# EAGLE library part STM32F4O7I (library stm32f4)
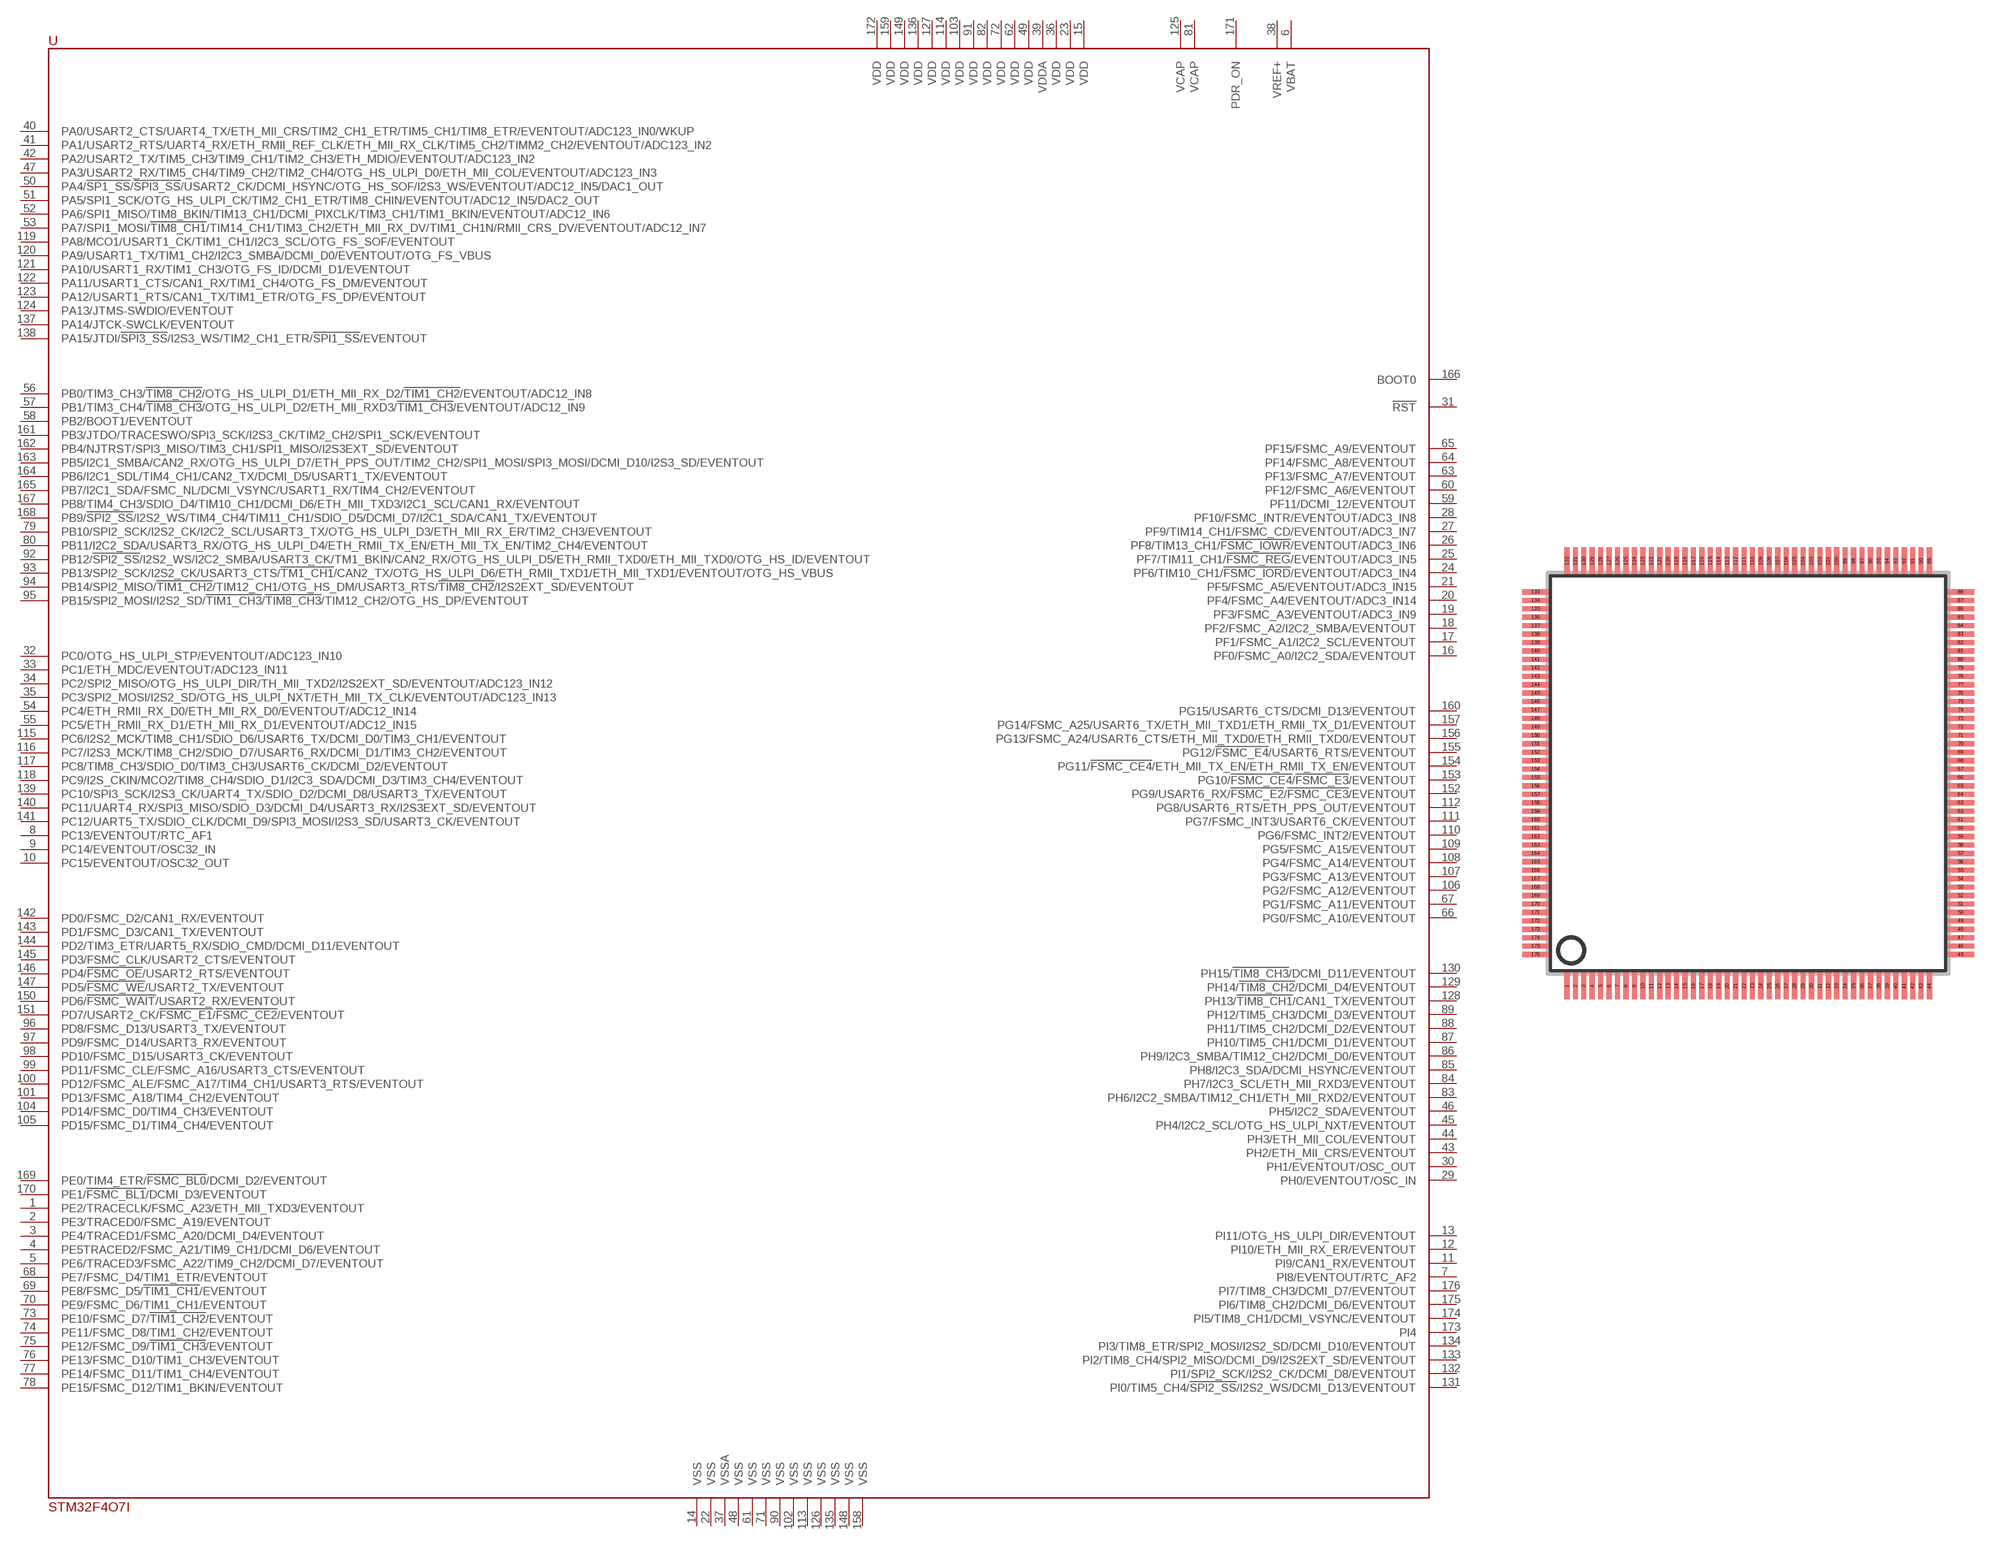
[diagram p3: symbol with the pads of SQFP-S-24X24-176; footprint SQFP-S-24X24-176]

Designator prefix -

## STM32F4O7I  [SQFP-S-24X24-176]
1  PE2/TRACECLK/FSMC_A23/ETH_MII_TXD3/EVENTOUT
2  PE3/TRACED0/FSMC_A19/EVENTOUT
3  PE4/TRACED1/FSMC_A20/DCMI_D4/EVENTOUT
4  PE5TRACED2/FSMC_A21/TIM9_CH1/DCMI_D6/EVENTOUT
5  PE6/TRACED3/FSMC_A22/TIM9_CH2/DCMI_D7/EVENTOUT
6  VBAT
7  PI8/EVENTOUT/RTC_AF2
8  PC13/EVENTOUT/RTC_AF1
9  PC14/EVENTOUT/OSC32_IN
10  PC15/EVENTOUT/OSC32_OUT
11  PI9/CAN1_RX/EVENTOUT
12  PI10/ETH_MII_RX_ER/EVENTOUT
13  PI11/OTG_HS_ULPI_DIR/EVENTOUT
14  VSS
15  VDD
16  PF0/FSMC_A0/I2C2_SDA/EVENTOUT
17  PF1/FSMC_A1/I2C2_SCL/EVENTOUT
18  PF2/FSMC_A2/I2C2_SMBA/EVENTOUT
19  PF3/FSMC_A3/EVENTOUT/ADC3_IN9
20  PF4/FSMC_A4/EVENTOUT/ADC3_IN14
21  PF5/FSMC_A5/EVENTOUT/ADC3_IN15
22  VSS
23  VDD
24  PF6/TIM10_CH1/!FSMC_IORD!/EVENTOUT/ADC3_IN4
25  PF7/TIM11_CH1/!FSMC_REG!/EVENTOUT/ADC3_IN5
26  PF8/TIM13_CH1/!FSMC_IOWR!/EVENTOUT/ADC3_IN6
27  PF9/TIM14_CH1/FSMC_CD/EVENTOUT/ADC3_IN7
28  PF10/FSMC_INTR/EVENTOUT/ADC3_IN8
29  PH0/EVENTOUT/OSC_IN
30  PH1/EVENTOUT/OSC_OUT
31  !RST!
32  PC0/OTG_HS_ULPI_STP/EVENTOUT/ADC123_IN10
33  PC1/ETH_MDC/EVENTOUT/ADC123_IN11
34  PC2/SPI2_MISO/OTG_HS_ULPI_DIR/TH_MII_TXD2/I2S2EXT_SD/EVENTOUT/ADC123_IN12
35  PC3/SPI2_MOSI/I2S2_SD/OTG_HS_ULPI_NXT/ETH_MII_TX_CLK/EVENTOUT/ADC123_IN13
36  VDD
37  VSSA
38  VREF+
39  VDDA
40  PA0/USART2_CTS/UART4_TX/ETH_MII_CRS/TIM2_CH1_ETR/TIM5_CH1/TIM8_ETR/EVENTOUT/ADC123_IN0/WKUP
41  PA1/USART2_RTS/UART4_RX/ETH_RMII_REF_CLK/ETH_MII_RX_CLK/TIM5_CH2/TIMM2_CH2/EVENTOUT/ADC123_IN2
42  PA2/USART2_TX/TIM5_CH3/TIM9_CH1/TIM2_CH3/ETH_MDIO/EVENTOUT/ADC123_IN2
43  PH2/ETH_MII_CRS/EVENTOUT
44  PH3/ETH_MII_COL/EVENTOUT
45  PH4/I2C2_SCL/OTG_HS_ULPI_NXT/EVENTOUT
46  PH5/I2C2_SDA/EVENTOUT
47  PA3/USART2_RX/TIM5_CH4/TIM9_CH2/TIM2_CH4/OTG_HS_ULPI_D0/ETH_MII_COL/EVENTOUT/ADC123_IN3
48  VSS
49  VDD
50  PA4/!SP1_SS!/!SPI3_SS!/USART2_CK/DCMI_HSYNC/OTG_HS_SOF/I2S3_WS/EVENTOUT/ADC12_IN5/DAC1_OUT
51  PA5/SPI1_SCK/OTG_HS_ULPI_CK/TIM2_CH1_ETR/TIM8_CHIN/EVENTOUT/ADC12_IN5/DAC2_OUT
52  PA6/SPI1_MISO/TIM8_BKIN/TIM13_CH1/DCMI_PIXCLK/TIM3_CH1/TIM1_BKIN/EVENTOUT/ADC12_IN6
53  PA7/SPI1_MOSI/!TIM8_CH1!/TIM14_CH1/TIM3_CH2/ETH_MII_RX_DV/TIM1_CH1N/RMII_CRS_DV/EVENTOUT/ADC12_IN7
54  PC4/ETH_RMII_RX_D0/ETH_MII_RX_D0/EVENTOUT/ADC12_IN14
55  PC5/ETH_RMII_RX_D1/ETH_MII_RX_D1/EVENTOUT/ADC12_IN15
56  PB0/TIM3_CH3/!TIM8_CH2!/OTG_HS_ULPI_D1/ETH_MII_RX_D2/!TIM1_CH2!/EVENTOUT/ADC12_IN8
57  PB1/TIM3_CH4/!TIM8_CH3!/OTG_HS_ULPI_D2/ETH_MII_RXD3/!TIM1_CH3!/EVENTOUT/ADC12_IN9
58  PB2/BOOT1/EVENTOUT
59  PF11/DCMI_12/EVENTOUT
60  PF12/FSMC_A6/EVENTOUT
61  VSS
62  VDD
63  PF13/FSMC_A7/EVENTOUT
64  PF14/FSMC_A8/EVENTOUT
65  PF15/FSMC_A9/EVENTOUT
66  PG0/FSMC_A10/EVENTOUT
67  PG1/FSMC_A11/EVENTOUT
68  PE7/FSMC_D4/TIM1_ETR/EVENTOUT
69  PE8/FSMC_D5/!TIM1_CH1!/EVENTOUT
70  PE9/FSMC_D6/TIM1_CH1/EVENTOUT
71  VSS
72  VDD
73  PE10/FSMC_D7/!TIM1_CH2!/EVENTOUT
74  PE11/FSMC_D8/TIM1_CH2/EVENTOUT
75  PE12/FSMC_D9/!TIM1_CH3!/EVENTOUT
76  PE13/FSMC_D10/TIM1_CH3/EVENTOUT
77  PE14/FSMC_D11/TIM1_CH4/EVENTOUT
78  PE15/FSMC_D12/TIM1_BKIN/EVENTOUT
79  PB10/SPI2_SCK/I2S2_CK/I2C2_SCL/USART3_TX/OTG_HS_ULPI_D3/ETH_MII_RX_ER/TIM2_CH3/EVENTOUT
80  PB11/I2C2_SDA/USART3_RX/OTG_HS_ULPI_D4/ETH_RMII_TX_EN/ETH_MII_TX_EN/TIM2_CH4/EVENTOUT
81  VCAP
82  VDD
83  PH6/I2C2_SMBA/TIM12_CH1/ETH_MII_RXD2/EVENTOUT
84  PH7/I2C3_SCL/ETH_MII_RXD3/EVENTOUT
85  PH8/I2C3_SDA/DCMI_HSYNC/EVENTOUT
86  PH9/I2C3_SMBA/TIM12_CH2/DCMI_D0/EVENTOUT
87  PH10/TIM5_CH1/DCMI_D1/EVENTOUT
88  PH11/TIM5_CH2/DCMI_D2/EVENTOUT
89  PH12/TIM5_CH3/DCMI_D3/EVENTOUT
90  VSS
91  VDD
92  PB12/!SPI2_SS!/I2S2_WS/I2C2_SMBA/USART3_CK/TM1_BKIN/CAN2_RX/OTG_HS_ULPI_D5/ETH_RMII_TXD0/ETH_MII_TXD0/OTG_HS_ID/EVENTOUT
93  PB13/SPI2_SCK/I2S2_CK/USART3_CTS/!TM1_CH1!/CAN2_TX/OTG_HS_ULPI_D6/ETH_RMII_TXD1/ETH_MII_TXD1/EVENTOUT/OTG_HS_VBUS
94  PB14/SPI2_MISO/!TIM1_CH2!/TIM12_CH1/OTG_HS_DM/USART3_RTS/!TIM8_CH2!/I2S2EXT_SD/EVENTOUT
95  PB15/SPI2_MOSI/I2S2_SD/!TIM1_CH3!/!TIM8_CH3!/TIM12_CH2/OTG_HS_DP/EVENTOUT
96  PD8/FSMC_D13/USART3_TX/EVENTOUT
97  PD9/FSMC_D14/USART3_RX/EVENTOUT
98  PD10/FSMC_D15/USART3_CK/EVENTOUT
99  PD11/FSMC_CLE/FSMC_A16/USART3_CTS/EVENTOUT
100  PD12/FSMC_ALE/FSMC_A17/TIM4_CH1/USART3_RTS/EVENTOUT
101  PD13/FSMC_A18/TIM4_CH2/EVENTOUT
102  VSS
103  VDD
104  PD14/FSMC_D0/TIM4_CH3/EVENTOUT
105  PD15/FSMC_D1/TIM4_CH4/EVENTOUT
106  PG2/FSMC_A12/EVENTOUT
107  PG3/FSMC_A13/EVENTOUT
108  PG4/FSMC_A14/EVENTOUT
109  PG5/FSMC_A15/EVENTOUT
110  PG6/FSMC_INT2/EVENTOUT
111  PG7/FSMC_INT3/USART6_CK/EVENTOUT
112  PG8/USART6_RTS/ETH_PPS_OUT/EVENTOUT
113  VSS
114  VDD
115  PC6/I2S2_MCK/TIM8_CH1/SDIO_D6/USART6_TX/DCMI_D0/TIM3_CH1/EVENTOUT
116  PC7/I2S3_MCK/TIM8_CH2/SDIO_D7/USART6_RX/DCMI_D1/TIM3_CH2/EVENTOUT
117  PC8/TIM8_CH3/SDIO_D0/TIM3_CH3/USART6_CK/DCMI_D2/EVENTOUT
118  PC9/I2S_CKIN/MCO2/TIM8_CH4/SDIO_D1/I2C3_SDA/DCMI_D3/TIM3_CH4/EVENTOUT
119  PA8/MCO1/USART1_CK/TIM1_CH1/I2C3_SCL/OTG_FS_SOF/EVENTOUT
120  PA9/USART1_TX/TIM1_CH2/I2C3_SMBA/DCMI_D0/EVENTOUT/OTG_FS_VBUS
121  PA10/USART1_RX/TIM1_CH3/OTG_FS_ID/DCMI_D1/EVENTOUT
122  PA11/USART1_CTS/CAN1_RX/TIM1_CH4/OTG_FS_DM/EVENTOUT
123  PA12/USART1_RTS/CAN1_TX/TIM1_ETR/OTG_FS_DP/EVENTOUT
124  PA13/JTMS-SWDIO/EVENTOUT
125  VCAP
126  VSS
127  VDD
128  PH13/!TIM8_CH1!/CAN1_TX/EVENTOUT
129  PH14/!TIM8_CH2!/DCMI_D4/EVENTOUT
130  PH15/!TIM8_CH3!/DCMI_D11/EVENTOUT
131  PI0/TIM5_CH4/!SPI2_SS!/I2S2_WS/DCMI_D13/EVENTOUT
132  PI1/SPI2_SCK/I2S2_CK/DCMI_D8/EVENTOUT
133  PI2/TIM8_CH4/SPI2_MISO/DCMI_D9/I2S2EXT_SD/EVENTOUT
134  PI3/TIM8_ETR/SPI2_MOSI/I2S2_SD/DCMI_D10/EVENTOUT
135  VSS
136  VDD
137  PA14/JTCK-SWCLK/EVENTOUT
138  PA15/JTDI/!SPI3_SS!/I2S3_WS/TIM2_CH1_ETR/!SPI1_SS!/EVENTOUT
139  PC10/SPI3_SCK/I2S3_CK/UART4_TX/SDIO_D2/DCMI_D8/USART3_TX/EVENTOUT
140  PC11/UART4_RX/SPI3_MISO/SDIO_D3/DCMI_D4/USART3_RX/I2S3EXT_SD/EVENTOUT
141  PC12/UART5_TX/SDIO_CLK/DCMI_D9/SPI3_MOSI/I2S3_SD/USART3_CK/EVENTOUT
142  PD0/FSMC_D2/CAN1_RX/EVENTOUT
143  PD1/FSMC_D3/CAN1_TX/EVENTOUT
144  PD2/TIM3_ETR/UART5_RX/SDIO_CMD/DCMI_D11/EVENTOUT
145  PD3/FSMC_CLK/USART2_CTS/EVENTOUT
146  PD4/!FSMC_OE!/USART2_RTS/EVENTOUT
147  PD5/!FSMC_WE!/USART2_TX/EVENTOUT
148  VSS
149  VDD
150  PD6/!FSMC_WAIT!/USART2_RX/EVENTOUT
151  PD7/USART2_CK/!FSMC_E1!/!FSMC_CE2!/EVENTOUT
152  PG9/USART6_RX/!FSMC_E2!/!FSMC_CE3!/EVENTOUT
153  PG10/!FSMC_CE4!/!FSMC_E3!/EVENTOUT
154  PG11/!FSMC_CE4!/ETH_MII_TX_EN/ETH_RMII_TX_EN/EVENTOUT
155  PG12/!FSMC_E4!/USART6_RTS/EVENTOUT
156  PG13/FSMC_A24/USART6_CTS/ETH_MII_TXD0/ETH_RMII_TXD0/EVENTOUT
157  PG14/FSMC_A25/USART6_TX/ETH_MII_TXD1/ETH_RMII_TX_D1/EVENTOUT
158  VSS
159  VDD
160  PG15/USART6_CTS/DCMI_D13/EVENTOUT
161  PB3/JTDO/TRACESWO/SPI3_SCK/I2S3_CK/TIM2_CH2/SPI1_SCK/EVENTOUT
162  PB4/NJTRST/SPI3_MISO/TIM3_CH1/SPI1_MISO/I2S3EXT_SD/EVENTOUT
163  PB5/I2C1_SMBA/CAN2_RX/OTG_HS_ULPI_D7/ETH_PPS_OUT/TIM2_CH2/SPI1_MOSI/SPI3_MOSI/DCMI_D10/I2S3_SD/EVENTOUT
164  PB6/I2C1_SDL/TIM4_CH1/CAN2_TX/DCMI_D5/USART1_TX/EVENTOUT
165  PB7/I2C1_SDA/FSMC_NL/DCMI_VSYNC/USART1_RX/TIM4_CH2/EVENTOUT
166  BOOT0
167  PB8/TIM4_CH3/SDIO_D4/TIM10_CH1/DCMI_D6/ETH_MII_TXD3/I2C1_SCL/CAN1_RX/EVENTOUT
168  PB9/!SPI2_SS!/I2S2_WS/TIM4_CH4/TIM11_CH1/SDIO_D5/DCMI_D7/I2C1_SDA/CAN1_TX/EVENTOUT
169  PE0/TIM4_ETR/!FSMC_BL0!/DCMI_D2/EVENTOUT
170  PE1/!FSMC_BL1!/DCMI_D3/EVENTOUT
171  PDR_ON
172  VDD
173  PI4
174  PI5/TIM8_CH1/DCMI_VSYNC/EVENTOUT
175  PI6/TIM8_CH2/DCMI_D6/EVENTOUT
176  PI7/TIM8_CH3/DCMI_D7/EVENTOUT

## Footprint SQFP-S-24X24-176 (pad centres in mm)
QFP176 shrink quad flat pack, square
smd 0.3 x 1.6: 1 -10.75,-12.6; 2 -10.25,-12.6; 3 -9.75,-12.6; 4 -9.25,-12.6; 5 -8.75,-12.6; 6 -8.25,-12.6; 7 -7.75,-12.6; 8 -7.25,-12.6; 9 -6.75,-12.6; 10 -6.25,-12.6; 11 -5.75,-12.6; 12 -5.25,-12.6; 13 -4.75,-12.6; 14 -4.25,-12.6; 15 -3.75,-12.6; 16 -3.25,-12.6; 17 -2.75,-12.6; 18 -2.25,-12.6; 19 -1.75,-12.6; 20 -1.25,-12.6; 21 -0.75,-12.6; 22 -0.25,-12.6; 23 0.25,-12.6; 24 0.75,-12.6; 25 1.25,-12.6; 26 1.75,-12.6; 27 2.25,-12.6; 28 2.75,-12.6; 29 3.25,-12.6; 30 3.75,-12.6; 31 4.25,-12.6; 32 4.75,-12.6; 33 5.25,-12.6; 34 5.75,-12.6; 35 6.25,-12.6; 36 6.75,-12.6; 37 7.25,-12.6; 38 7.75,-12.6; 39 8.25,-12.6; 40 8.75,-12.6; 41 9.25,-12.6; 42 9.75,-12.6; 43 10.25,-12.6; 44 10.75,-12.6; 89 10.75,12.6; 90 10.25,12.6; 91 9.75,12.6; 92 9.25,12.6; 93 8.75,12.6; 94 8.25,12.6; 95 7.75,12.6; 96 7.25,12.6; 97 6.75,12.6; 98 6.25,12.6; 99 5.75,12.6; 100 5.25,12.6; 101 4.75,12.6; 102 4.25,12.6; 103 3.75,12.6; 104 3.25,12.6; 105 2.75,12.6; 106 2.25,12.6; 107 1.75,12.6; 108 1.25,12.6; 109 0.75,12.6; 110 0.25,12.6; 111 -0.25,12.6; 112 -0.75,12.6; 113 -1.25,12.6; 114 -1.75,12.6; 115 -2.25,12.6; 116 -2.75,12.6; 117 -3.25,12.6; 118 -3.75,12.6; 119 -4.25,12.6; 120 -4.75,12.6; 121 -5.25,12.6; 122 -5.75,12.6; 123 -6.25,12.6; 124 -6.75,12.6; 125 -7.25,12.6; 126 -7.75,12.6; 127 -8.25,12.6; 128 -8.75,12.6; 129 -9.25,12.6; 130 -9.75,12.6; 131 -10.25,12.6; 132 -10.75,12.6
smd 1.6 x 0.3: 45 12.6,-10.75; 46 12.6,-10.25; 47 12.6,-9.75; 48 12.6,-9.25; 49 12.6,-8.75; 50 12.6,-8.25; 51 12.6,-7.75; 52 12.6,-7.25; 53 12.6,-6.75; 54 12.6,-6.25; 55 12.6,-5.75; 56 12.6,-5.25; 57 12.6,-4.75; 58 12.6,-4.25; 59 12.6,-3.75; 60 12.6,-3.25; 61 12.6,-2.75; 62 12.6,-2.25; 63 12.6,-1.75; 64 12.6,-1.25; 65 12.6,-0.75; 66 12.6,-0.25; 67 12.6,0.25; 68 12.6,0.75; 69 12.6,1.25; 70 12.6,1.75; 71 12.6,2.25; 72 12.6,2.75; 73 12.6,3.25; 74 12.6,3.75; 75 12.6,4.25; 76 12.6,4.75; 77 12.6,5.25; 78 12.6,5.75; 79 12.6,6.25; 80 12.6,6.75; 81 12.6,7.25; 82 12.6,7.75; 83 12.6,8.25; 84 12.6,8.75; 85 12.6,9.25; 86 12.6,9.75; 87 12.6,10.25; 88 12.6,10.75; 133 -12.6,10.75; 134 -12.6,10.25; 135 -12.6,9.75; 136 -12.6,9.25; 137 -12.6,8.75; 138 -12.6,8.25; 139 -12.6,7.75; 140 -12.6,7.25; 141 -12.6,6.75; 142 -12.6,6.25; 143 -12.6,5.75; 144 -12.6,5.25; 145 -12.6,4.75; 146 -12.6,4.25; 147 -12.6,3.75; 148 -12.6,3.25; 149 -12.6,2.75; 150 -12.6,2.25; 151 -12.6,1.75; 152 -12.6,1.25; 153 -12.6,0.75; 154 -12.6,0.25; 155 -12.6,-0.25; 156 -12.6,-0.75; 157 -12.6,-1.25; 158 -12.6,-1.75; 159 -12.6,-2.25; 160 -12.6,-2.75; 161 -12.6,-3.25; 162 -12.6,-3.75; 163 -12.6,-4.25; 164 -12.6,-4.75; 165 -12.6,-5.25; 166 -12.6,-5.75; 167 -12.6,-6.25; 168 -12.6,-6.75; 169 -12.6,-7.25; 170 -12.6,-7.75; 171 -12.6,-8.25; 172 -12.6,-8.75; 173 -12.6,-9.25; 174 -12.6,-9.75; 175 -12.6,-10.25; 176 -12.6,-10.75